# EAGLE library part ADAFRUIT_QT_PY (library ADAFRUIT_QT_PY)
Check availability <https://pricing.snapeda.com/parts/Adafruit%20QT%20Py/Adafruit%20Industries/view-part?ref=eda>
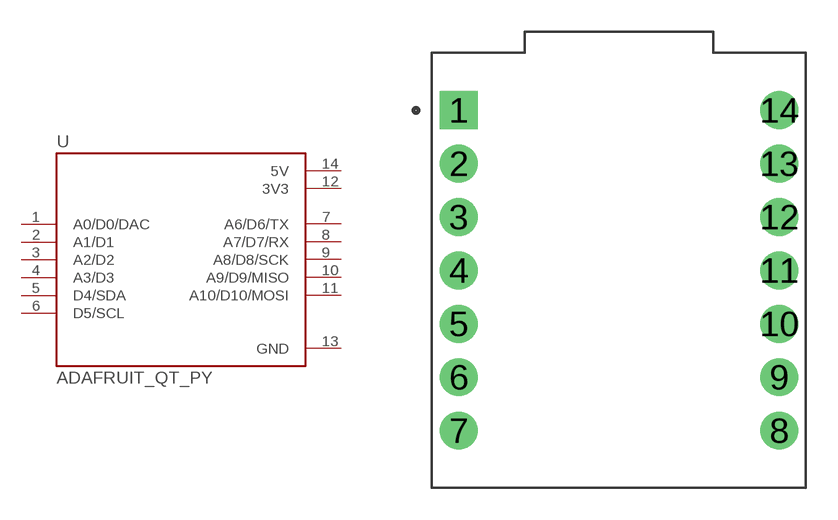
[diagram p0: symbol with the pads of MODULE_ADAFRUIT_QT_PY; footprint MODULE_ADAFRUIT_QT_PY]

Designator prefix U

## ADAFRUIT_QT_PY (Availability: Not in stock; Description: Castellated Pads - SAMD21 Dev Board with STEMMA QT; MF: Adafruit Industries; MP: Adafruit QT Py; Package: None; Price: None)  [MODULE_ADAFRUIT_QT_PY]
1  A0/D0/DAC
2  A1/D1
3  A2/D2
4  A3/D3
5  D4/SDA
6  D5/SCL
7  A6/D6/TX
8  A7/D7/RX
9  A8/D8/SCK
10  A9/D9/MISO
11  A10/D10/MOSI
12  3V3  pwr
13  GND  pwr
14  5V  pwr

## Footprint MODULE_ADAFRUIT_QT_PY (pad centres in mm)
drill 1.2 pad 1.8 square: 1 -7.62,7.62
drill 1.2 pad 1.8: 2 -7.62,5.08; 3 -7.62,2.54; 4 -7.62,0; 5 -7.62,-2.54; 6 -7.62,-5.08; 7 -7.62,-7.62; 8 7.62,-7.62; 9 7.62,-5.08; 10 7.62,-2.54; 11 7.62,0; 12 7.62,2.54; 13 7.62,5.08; 14 7.62,7.62